# Altium footprint library 10132797-017100LF.PcbLib: 1 footprints
Each footprint in its own frame and in the unit in brackets; x right, y up, seen from the top. Pads: shape width x height; smd on the part's side, far side on the other; paste and mask are expansions set on the pad; w line width, h text height; cw(c..) or ccw(c..) is an arc to the next point about the centre after c.
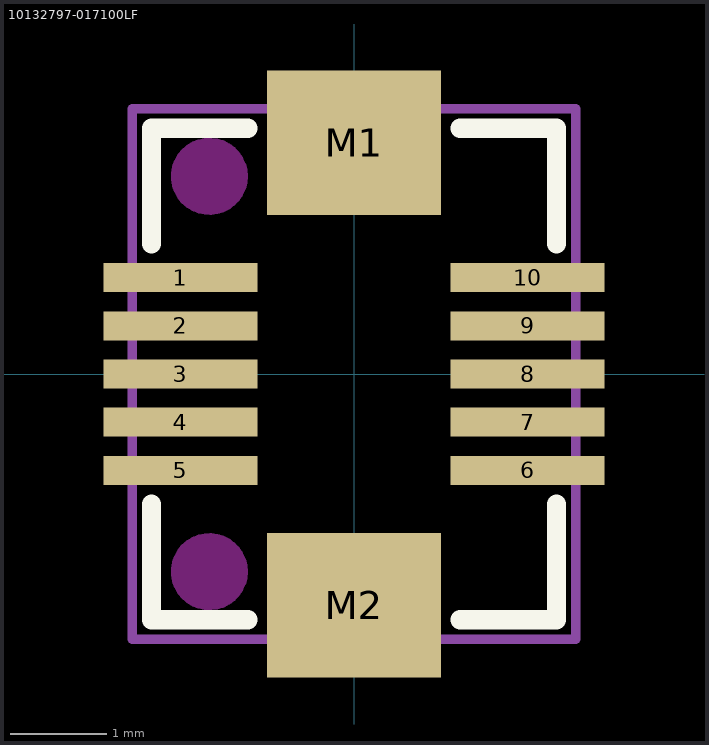
[diagram p0: the footprint, top view; thin cyan lines are the x and y axes]

## 10132797-017100LF [mm]
pads (12):
  rect 1.6x0.3 smd: 1(-1.8,1) 2(-1.8,0.5) 3(-1.8,0) 4(-1.8,-0.5) 5(-1.8,-1) 6(1.8,-1) 7(1.8,-0.5) 8(1.8,0) 9(1.8,0.5) 10(1.8,1)
  rect 1.8x1.5 smd: M1(0,2.4) M2(0,-2.4)
Top Overlay:
  lines w0.2: -2.1,-1.35 -2.1,-2.55 -1.1,-2.55 ; -2.1,1.35 -2.1,2.55 -1.1,2.55 ; 1.1,-2.55 2.1,-2.55 2.1,-1.35 ; 1.1,2.55 2.1,2.55 2.1,1.35
Keep-Out Layer:
  board cut-out: -1.15,-2.05 -1.15,-2.12 -1.203,-2.248 -1.302,-2.347 -1.43,-2.4 -1.5,-2.4 -1.57,-2.4 -1.698,-2.347 -1.797,-2.248 -1.85,-2.12 -1.85,-2.05 -1.85,-1.98 -1.797,-1.852 -1.698,-1.753 -1.57,-1.7 -1.5,-1.7 -1.43,-1.7 -1.302,-1.753 -1.203,-1.852 -1.15,-1.98
  board cut-out: -1.5,1.7 -1.43,1.7 -1.302,1.753 -1.203,1.852 -1.15,1.98 -1.15,2.05 -1.15,2.12 -1.203,2.248 -1.302,2.347 -1.43,2.4 -1.5,2.4 -1.57,2.4 -1.698,2.347 -1.797,2.248 -1.85,2.12 -1.85,2.05 -1.85,1.98 -1.797,1.852 -1.698,1.753 -1.57,1.7
Keep-Out Layer:
  circle w0.1: c-1.5,-2.05 r0.35
  circle w0.1: c-1.5,2.05 r0.35
Top Assembly:
  lines w0.1: -2.3,-2.75 -2.3,2.75 2.3,2.75 2.3,-2.75 -2.3,-2.75
  text "'.Designator'" at -3.965,-0.292 h0.7
3D body "10132797-017100LF.stp": height 5.3, standoff -0.5, extent -2.31,-2.75 2.29,2.75